# Altium footprint library WE-LAN AQ.PcbLib: 6 footprints
Each footprint in its own frame and in the unit in brackets; x right, y up, seen from the top. Pads: shape width x height; smd on the part's side, far side on the other; paste and mask are expansions set on the pad; w line width, h text height; cw(c..) or ccw(c..) is an arc to the next point about the centre after c.
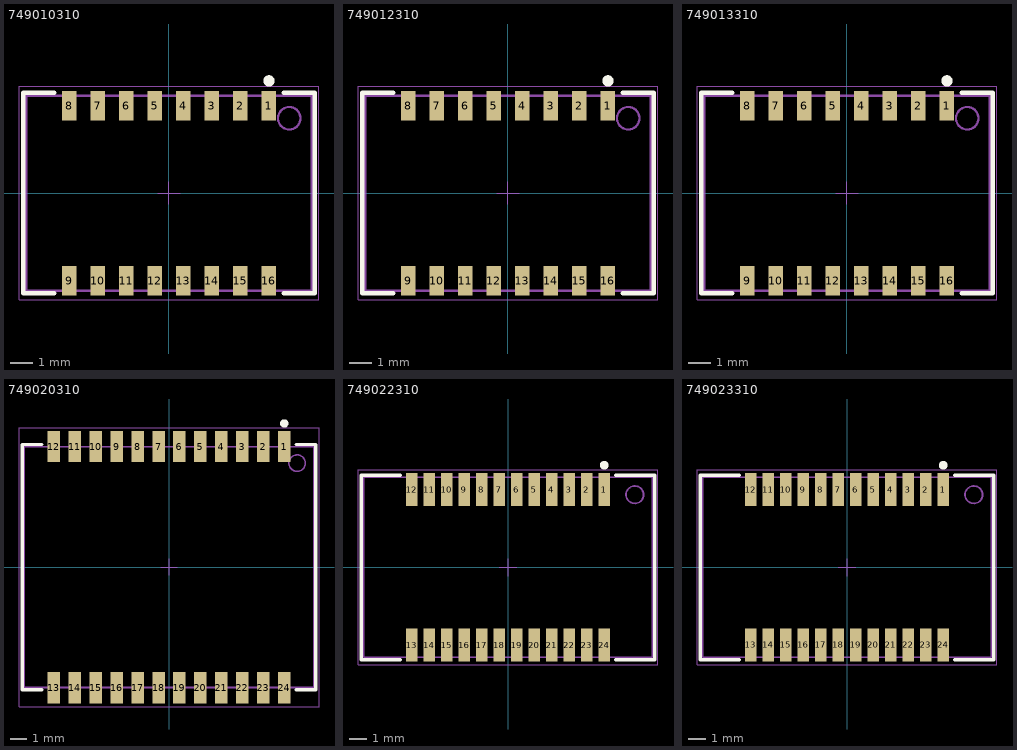
[diagram p0: the footprints below, top view; thin cyan lines are the x and y axes]

## 749010310 [mm] "10/100 Base-T SMD Transformer 1 Port, body 12.95x8.92mm"
height 4.25
pads (16):
  rect 0.64x1.32 smd: 1(4.445,3.89) 2(3.175,3.89) 3(1.905,3.89) 4(0.635,3.89) 5(-0.635,3.89) 6(-1.905,3.89) 7(-3.175,3.89) 8(-4.445,3.89) 9(-4.445,-3.89) 10(-3.175,-3.89) 11(-1.905,-3.89) 12(-0.635,-3.89) 13(0.635,-3.89) 14(1.905,-3.89) 15(3.175,-3.89) 16(4.445,-3.89)
Top Overlay:
  circle w0.25: c4.445,5 r0.125
  lines w0.2: -5.1,-4.46 -6.475,-4.46 -6.475,4.46 -5.1,4.46 ; 5.1,-4.46 6.475,-4.46 6.475,4.46 5.1,4.46
Top Component Outline:
  circle w0.1: c5.35,3.335 r0.5
  lines w0.1: -6.35,-4.335 6.35,-4.335 6.35,4.335 -6.35,4.335 -6.35,-4.335
Top Courtyard:
  lines w0.05: -6.675,-4.75 6.675,-4.75 6.675,4.75 -6.675,4.75 -6.675,-4.75
Top Component Center:
  lines w0.05: -0.5,0 0.5,0 ; 0,-0.5 0,0.5
Top Designator (Mech19):
  text ".Designator" at -7.498,-0.5 h1.5
3D body "749010310.stp": height 3.75, standoff 0, extent -6.35,-4.335 6.35,4.335

## 749012310 [mm] "SMT Transformer, body 12.7x8.67mm"
height 4
pads (16):
  rect 0.64x1.32 smd: 1(4.445,3.89) 2(3.175,3.89) 3(1.905,3.89) 4(0.635,3.89) 5(-0.635,3.89) 6(-1.905,3.89) 7(-3.175,3.89) 8(-4.445,3.89) 9(-4.445,-3.89) 10(-3.175,-3.89) 11(-1.905,-3.89) 12(-0.635,-3.89) 13(0.635,-3.89) 14(1.905,-3.89) 15(3.175,-3.89) 16(4.445,-3.89)
Top Overlay:
  circle w0.25: c4.445,5 r0.125
  lines w0.2: -5.1,-4.46 -6.475,-4.46 -6.475,4.46 -5.1,4.46 ; 5.1,-4.46 6.475,-4.46 6.475,4.46 5.1,4.46
Top Component Outline:
  circle w0.1: c5.35,3.335 r0.5
  lines w0.1: -6.35,-4.335 6.35,-4.335 6.35,4.335 -6.35,4.335 -6.35,-4.335
Top Courtyard:
  lines w0.05: -6.675,-4.75 6.675,-4.75 6.675,4.75 -6.675,4.75 -6.675,-4.75
Top Component Center:
  lines w0.05: -0.5,0 0.5,0 ; 0,-0.5 0,0.5
Top Designator (Mech19):
  text ".Designator" at -7.498,-0.5 h1.5
3D body "749012310.stp": height 4.02, standoff 0.02, extent -6.35,-4.335 6.35,4.335

## 749013310 [mm] "SMT Transformer, body 12.7x8.67mm"
height 4
pads (16):
  rect 0.64x1.32 smd: 1(4.445,3.89) 2(3.175,3.89) 3(1.905,3.89) 4(0.635,3.89) 5(-0.635,3.89) 6(-1.905,3.89) 7(-3.175,3.89) 8(-4.445,3.89) 9(-4.445,-3.89) 10(-3.175,-3.89) 11(-1.905,-3.89) 12(-0.635,-3.89) 13(0.635,-3.89) 14(1.905,-3.89) 15(3.175,-3.89) 16(4.445,-3.89)
Top Overlay:
  circle w0.25: c4.445,5 r0.125
  lines w0.2: -5.1,-4.46 -6.475,-4.46 -6.475,4.46 -5.1,4.46 ; 5.1,-4.46 6.475,-4.46 6.475,4.46 5.1,4.46
Top Component Outline:
  circle w0.1: c5.35,3.335 r0.5
  lines w0.1: -6.35,-4.335 6.35,-4.335 6.35,4.335 -6.35,4.335 -6.35,-4.335
Top Courtyard:
  lines w0.05: -6.675,-4.75 6.675,-4.75 6.675,4.75 -6.675,4.75 -6.675,-4.75
Top Component Center:
  lines w0.05: -0.5,0 0.5,0 ; 0,-0.5 0,0.5
Top Designator (Mech19):
  text ".Designator" at -7.498,-0.5 h1.5
3D body "749013310.stp": height 4.02, standoff 0.02, extent -6.35,-4.335 6.35,4.335

## 749020310 [mm] "10/100/1000 Base-T SMD Transformer 1 Port, body 17.78x14.85mm"
height 4.5
pads (24):
  rect 0.76x1.9 smd: 1(6.985,7.305) 2(5.715,7.305) 3(4.445,7.305) 4(3.175,7.305) 5(1.905,7.305) 6(0.635,7.305) 7(-0.635,7.305) 8(-1.905,7.305) 9(-3.175,7.305) 10(-4.445,7.305) 11(-5.715,7.305) 12(-6.985,7.305) 13(-6.985,-7.305) 14(-5.715,-7.305) 15(-4.445,-7.305) 16(-3.175,-7.305) 17(-1.905,-7.305) 18(-0.635,-7.305) 19(0.635,-7.305) 20(1.905,-7.305) 21(3.175,-7.305) 22(4.445,-7.305) 23(5.715,-7.305) 24(6.985,-7.305)
Top Overlay:
  circle w0.25: c6.985,8.705 r0.125
  lines w0.2: -7.7,-7.425 -8.89,-7.425 -8.89,7.425 -7.7,7.425 ; 7.7,-7.425 8.89,-7.425 8.89,7.425 7.7,7.425
Top Component Outline:
  circle w0.1: c7.765,6.3 r0.5
  lines w0.1: -8.765,-7.3 8.765,-7.3 8.765,7.3 -8.765,7.3 -8.765,-7.3
Top Courtyard:
  lines w0.05: -9.09,-8.455 9.09,-8.455 9.09,8.455 -9.09,8.455 -9.09,-8.455
Top Component Center:
  lines w0.05: -0.5,0 0.5,0 ; 0,-0.5 0,0.5
Top Designator (Mech19):
  text ".Designator" at -7.498,-0.5 h1.5
3D body "749020310.stp": height 4.45, standoff 0, extent -8.765,-7.3 8.765,7.3

## 749022310 [mm] "SMT Transformer, body 16.5x10.3mm"
height 4.1
pads (24):
  rect 0.64x1.88 smd: 1(5.5,4.445) 2(4.5,4.445) 3(3.5,4.445) 4(2.5,4.445) 5(1.5,4.445) 6(0.5,4.445) 7(-0.5,4.445) 8(-1.5,4.445) 9(-2.5,4.445) 10(-3.5,4.445) 11(-4.5,4.445) 12(-5.5,4.445) 13(-5.5,-4.445) 14(-4.5,-4.445) 15(-3.5,-4.445) 16(-2.5,-4.445) 17(-1.5,-4.445) 18(-0.5,-4.445) 19(0.5,-4.445) 20(1.5,-4.445) 21(2.5,-4.445) 22(3.5,-4.445) 23(4.5,-4.445) 24(5.5,-4.445)
Top Overlay:
  circle w0.25: c5.5,5.835 r0.125
  lines w0.2: -6.15,-5.275 -8.375,-5.275 -8.375,5.275 -6.15,5.275 ; 6.15,-5.275 8.375,-5.275 8.375,5.275 6.15,5.275
Top Component Outline:
  circle w0.1: c7.25,4.15 r0.5
  lines w0.1: -8.25,-5.15 8.25,-5.15 8.25,5.15 -8.25,5.15 -8.25,-5.15
Top Courtyard:
  lines w0.05: -8.575,-5.585 -8.575,5.585 8.575,5.585 8.575,-5.585 -8.575,-5.585
Top Component Center:
  lines w0.05: -0.5,0 0.5,0 ; 0,-0.5 0,0.5
Top Designator (Mech19):
  text ".Designator" at -7.498,-0.5 h1.5
3D body "749022310.stp": height 4.1, standoff 0, extent -8.25,-5.15 8.25,5.15

## 749023310 [mm] "SMT Transformer, body 16.5x10.3mm"
height 4.1
pads (24):
  rect 0.64x1.88 smd: 1(5.5,4.44) 2(4.5,4.44) 3(3.5,4.44) 4(2.5,4.44) 5(1.5,4.44) 6(0.5,4.44) 7(-0.5,4.44) 8(-1.5,4.44) 9(-2.5,4.44) 10(-3.5,4.44) 11(-4.5,4.44) 12(-5.5,4.44) 13(-5.5,-4.44) 14(-4.5,-4.44) 15(-3.5,-4.44) 16(-2.5,-4.44) 17(-1.5,-4.44) 18(-0.5,-4.44) 19(0.5,-4.44) 20(1.5,-4.44) 21(2.5,-4.44) 22(3.5,-4.44) 23(4.5,-4.44) 24(5.5,-4.44)
Top Overlay:
  circle w0.25: c5.5,5.83 r0.125
  lines w0.2: -6.15,-5.275 -8.375,-5.275 -8.375,5.275 -6.15,5.275 ; 6.15,-5.275 8.375,-5.275 8.375,5.275 6.15,5.275
Top Component Outline:
  circle w0.1: c7.25,4.15 r0.5
  lines w0.1: -8.25,-5.15 8.25,-5.15 8.25,5.15 -8.25,5.15 -8.25,-5.15
Top Courtyard:
  lines w0.05: -8.575,-5.58 -8.575,5.58 8.575,5.58 8.575,-5.58 -8.575,-5.58
Top Component Center:
  lines w0.05: -0.5,0 0.5,0 ; 0,-0.5 0,0.5
Top Designator (Mech19):
  text ".Designator" at -7.498,-0.5 h1.5
3D body "749023310.stp": height 4.1, standoff 0, extent -8.25,-5.15 8.25,5.15